# Altium schematic symbol library Digital Isolators.SchLib: 6 symbols
Pins are listed as number, name and electrical type; pins without a type are passive.

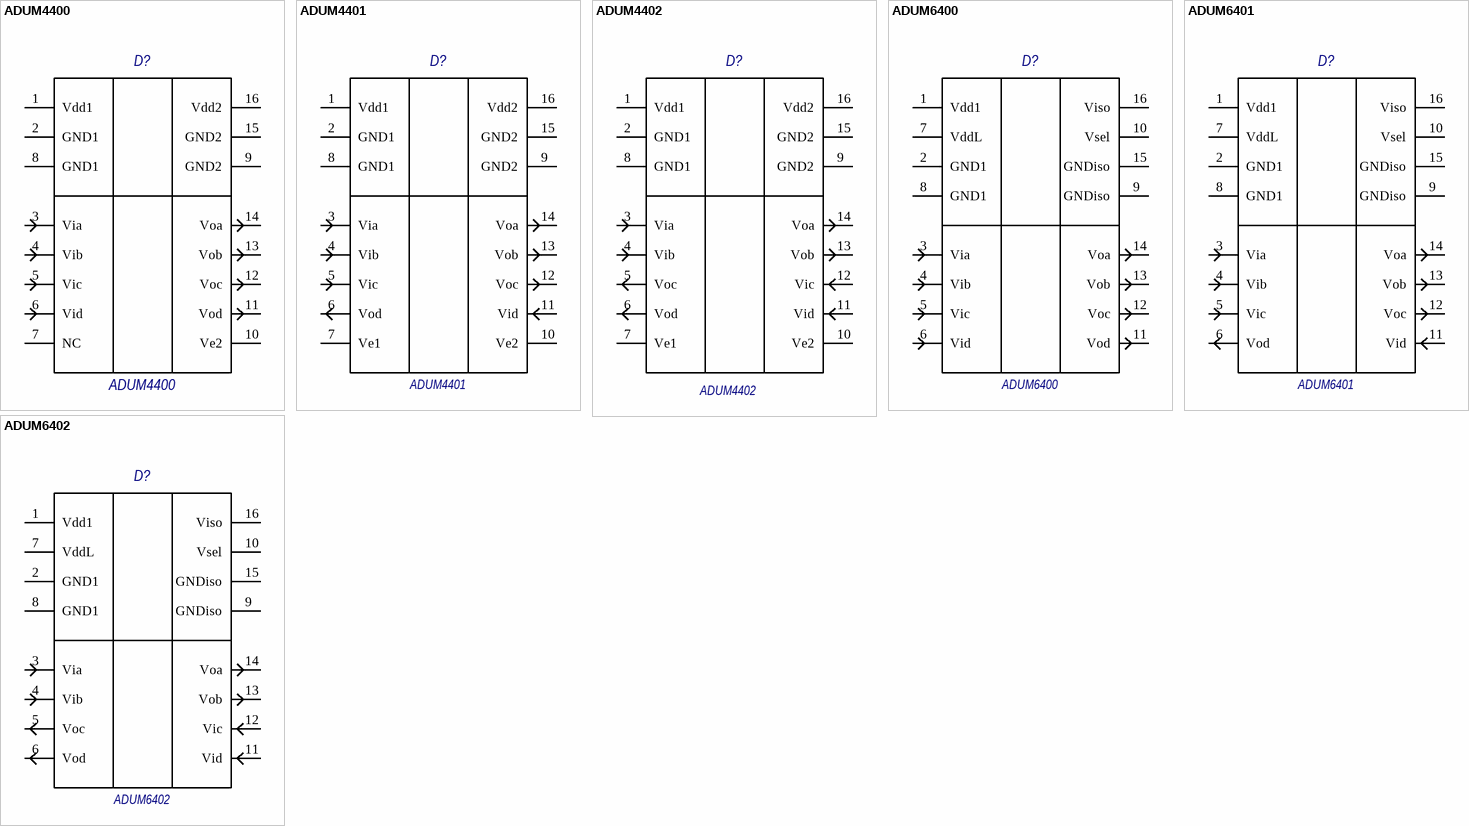
[diagram p0: symbols ADUM4400 to ADUM6402]

## ADUM4400
designator D?  Type: ADUM4400  (hidden comment: *)
footprint SO-16W
pins: 1 Vdd1, 2 GND1, 3 Via, 4 Vib, 5 Vic, 6 Vid, 7 NC, 8 GND1, 9 GND2, 10 Ve2, 11 Vod, 12 Voc, 13 Vob, 14 Voa, 15 GND2, 16 Vdd2

## ADUM4401
designator D?  Type: ADUM4401  (hidden comment: *)
footprint SO-16W
pins: 1 Vdd1, 2 GND1, 3 Via, 4 Vib, 5 Vic, 6 Vod, 7 Ve1, 8 GND1, 9 GND2, 10 Ve2, 11 Vid, 12 Voc, 13 Vob, 14 Voa, 15 GND2, 16 Vdd2

## ADUM4402
designator D?  Type: ADUM4402  (hidden comment: *)
footprint SO-16W
pins: 1 Vdd1, 2 GND1, 3 Via, 4 Vib, 5 Voc, 6 Vod, 7 Ve1, 8 GND1, 9 GND2, 10 Ve2, 11 Vid, 12 Vic, 13 Vob, 14 Voa, 15 GND2, 16 Vdd2

## ADUM6400
designator D?  Type: ADUM6400  (hidden comment: *)
footprint SO-16W
pins: 1 Vdd1, 2 GND1, 3 Via, 4 Vib, 5 Vic, 6 Vid, 7 VddL, 8 GND1, 9 GNDiso, 10 Vsel, 11 Vod, 12 Voc, 13 Vob, 14 Voa, 15 GNDiso, 16 Viso

## ADUM6401
designator D?  Type: ADUM6401  (hidden comment: *)
footprint SO-16W
pins: 1 Vdd1, 2 GND1, 3 Via, 4 Vib, 5 Vic, 6 Vod, 7 VddL, 8 GND1, 9 GNDiso, 10 Vsel, 11 Vid, 12 Voc, 13 Vob, 14 Voa, 15 GNDiso, 16 Viso

## ADUM6402
designator D?  Type: ADUM6402  (hidden comment: *)
footprint SO-16W
pins: 1 Vdd1, 2 GND1, 3 Via, 4 Vib, 5 Voc, 6 Vod, 7 VddL, 8 GND1, 9 GNDiso, 10 Vsel, 11 Vid, 12 Vic, 13 Vob, 14 Voa, 15 GNDiso, 16 Viso